# Altium footprint library lib.PcbLib: 23 footprints (part 2 of 2)
Each footprint in its own frame and in the unit in brackets; x right, y up, seen from the top. Pads: shape width x height; smd on the part's side, far side on the other; paste and mask are expansions set on the pad; w line width, h text height; cw(c..) or ccw(c..) is an arc to the next point about the centre after c.
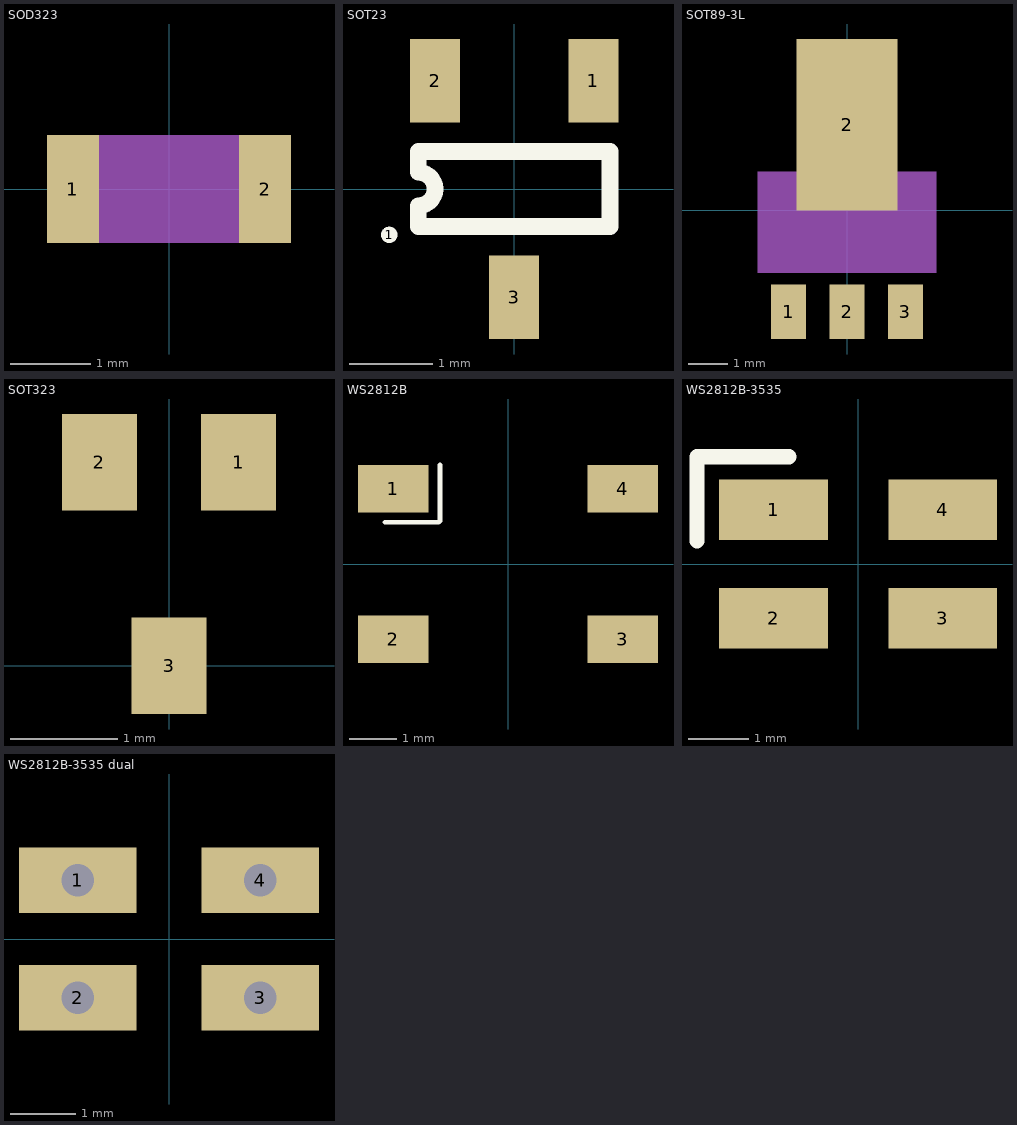
[diagram p1: the footprints below, top view; thin cyan lines are the x and y axes]

## SOD323 [mm]
pads (2):
  rect 0.65x1.35 smd: 1(-1.2,0) 2(1.2,0)
Mechanical 1:
  rectangle: -0.9,-0.675 0.9,0.675
3D body: height 0.8, standoff 0, extent -0.9,-0.7 0.9,0.7

## SOT23 [mm]
pads (4):
  round 0.2 on Top Overlay: 1(-1.5,-0.55)
  rect 0.6x1 smd: 1(0.95,1.3) 2(-0.95,1.3) 3(0,-1.3)
Top Overlay:
  lines w0.2: -1.15,-0.45 -1.15,-0.2 ccw(c-1.15,0) -1.15,0.2 -1.15,0.45 1.15,0.45 1.15,-0.45 -1.15,-0.45
3D body "SOT23-3.step": height 1.3, standoff 0, extent -1.45,-1.4 1.45,1.4

## SOT89-3L [mm]
pads (4):
  rect 0.9x1.4 smd: 1(-1.5,-2.6) 2(0,-2.6) 3(1.5,-2.6)
  rect 2.6x4.4 smd: 2(0,2.2)
Top Overlay:
  region: 0,0
Mechanical 1:
  rectangle: -2.3,-1.6 2.3,1
3D body: height 1, standoff 0, extent -2.3,-1.6 2.3,1
3D body: height 0.25, standoff 0, extent 0,0 0,0

## SOT323 [mm]
pads (3):
  rect 0.7x0.9 smd: 1(0.65,1.9) 2(-0.65,1.9) 3(0,0)

## WS2812B [mil] "3535"
pads (4):
  rect 59.1x39.4 smd: 1(-96,63) 2(-96,-63) 3(96,-63) 4(96,63)
Top Overlay:
  lines w3.94: -103,35 -58,35 -57,36 ; -57,37 -57,83
3D body "WS2812_RGB_LED_updated.stp": height 59.06, standoff -7.87, extent -105.32,-97.43 105.31,97.45

## WS2812B-3535 [mm] "3535"
pads (4):
  rect 1.8x1 smd: 1(-1.4,0.9) 2(-1.4,-0.9) 3(1.4,-0.9) 4(1.4,0.9)
Top Overlay:
  lines w0.254: -2.667,0.381 -2.667,1.778 -1.143,1.778

## WS2812B-3535 dual [mm] "3535"
pads (4):
  rect 1.8x1 / inner rect 0.5x0.5 / far side rect 0.5x0.5 hole 0.5 square: 1(-1.4,0.9)
  rect 1.8x1 / inner round 0.5 / far side round 0.5 hole 0.5: 2(-1.4,-0.9) 3(1.4,-0.9)
  rect 1.8x1 / inner rect 0.5x0.5 / far side rect 1.8x1 hole 0.5: 4(1.4,0.9)